# Altium schematic symbol library Speaker.SchLib: 1 symbol
Pins are listed as number, name and electrical type; pins without a type are passive.

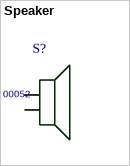
[diagram p0: symbol Speaker]

## Speaker
designator S?, comment 2403 263 00052
PDF: http://media.digikey.com/pdf/Data%20Sheets/Knowles%20Acoustics%20PDFs/2403-263-00052.pdf; BUY_LINK: http://www.digikey.com/product-detail/en/2403%20263%2000052/423-1198-ND/4376272; PRICE: 2.21000; ID: 2403 263 00052
footprint 2403 263 00052
pins: 1, 2